# Altium footprint library ECS3225MV320BNTR.PcbLib: 1 footprints
Each footprint in its own frame and in the unit in brackets; x right, y up, seen from the top. Pads: shape width x height; smd on the part's side, far side on the other; paste and mask are expansions set on the pad; w line width, h text height; cw(c..) or ccw(c..) is an arc to the next point about the centre after c.
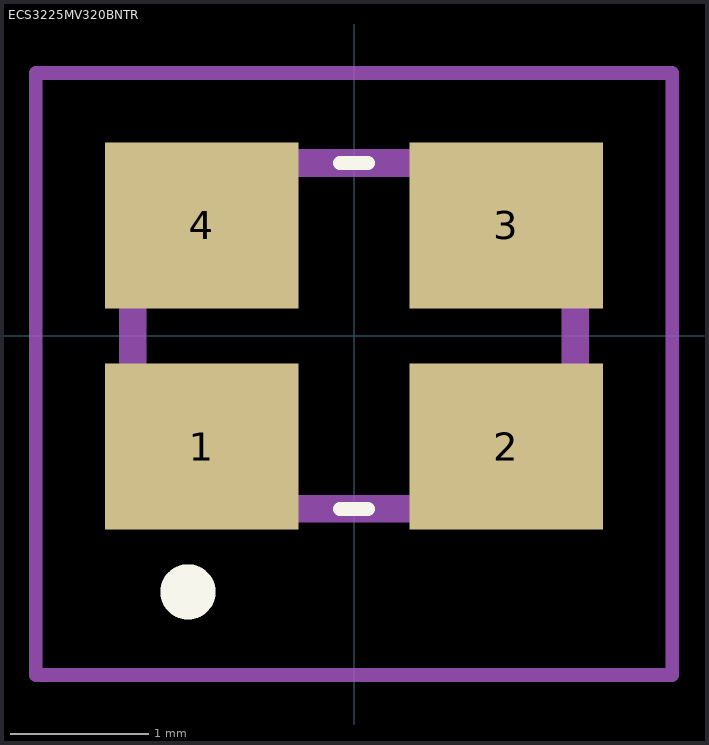
[diagram p0: the footprint, top view; thin cyan lines are the x and y axes]

## ECS3225MV320BNTR [mm]
pads (4):
  rect 1.4x1.2 smd: 1(-1.1,-0.8) 2(1.1,-0.8) 3(1.1,0.8) 4(-1.1,0.8)
Top Overlay:
  lines w0.1: -0.1,-1.25 0.1,-1.25 ; -0.1,1.25 0.1,1.25
  lines w0.2: -1.3,-1.85 cw(c-1.2,-1.85) -1.1,-1.85 cw(c-1.2,-1.85) -1.3,-1.85
Mechanical 13:
  lines w0.2: -1.6,-1.25 -1.6,1.25 1.6,1.25 1.6,-1.25 -1.6,-1.25
Mechanical 15:
  lines w0.1: -2.3,-2.45 -2.3,1.9 2.3,1.9 2.3,-2.45 -2.3,-2.45
3D body "ECS-3225MV-240-BN-TR.stp": height 1.3, standoff 0, extent -1.68,-1.28 1.68,1.28